# EAGLE library part STM32F1-BLUE_PILL-USBC (library angrypig7-Boards)
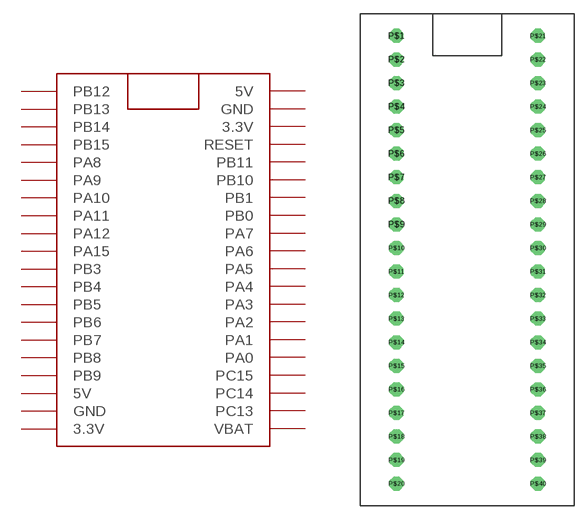
[diagram p8: symbol with the pads of STM32F1-BLUE_PILL; footprint STM32F1-BLUE_PILL]

Designator prefix B

## STM32F1-BLUE_PILL-USBC  [STM32F1-BLUE_PILL]
P$1  PB12
P$2  PB13
P$3  PB14
P$4  PB15
P$5  PA8
P$6  PA9
P$7  PA10
P$8  PA11
P$9  PA12
P$10  PA15
P$11  PB3
P$12  PB4
P$13  PB5
P$14  PB6
P$15  PB7
P$16  PB8
P$17  PB9
P$18  5V
P$19  GND
P$20  3.3V
P$21  5V
P$22  GND  pwr
P$23  3.3V
P$24  RESET
P$25  PB11
P$26  PB10
P$27  PB1
P$28  PB0
P$29  PA7
P$30  PA6
P$31  PA5
P$32  PA4
P$33  PA3
P$34  PA2
P$35  PA1
P$36  PA0
P$37  PC15
P$38  PC14
P$39  PC13
P$40  VBAT

## Footprint STM32F1-BLUE_PILL (pad centres in mm)
drill 1 octagon: P$1 -7.62,24.13; P$2 -7.62,21.59; P$3 -7.62,19.05; P$4 -7.62,16.51; P$5 -7.62,13.97; P$6 -7.62,11.43; P$7 -7.62,8.89; P$8 -7.62,6.35; P$9 -7.62,3.81; P$10 -7.62,1.27; P$11 -7.62,-1.27; P$12 -7.62,-3.81; P$13 -7.62,-6.35; P$14 -7.62,-8.89; P$15 -7.62,-11.43; P$16 -7.62,-13.97; P$17 -7.62,-16.51; P$18 -7.62,-19.05; P$19 -7.62,-21.59; P$20 -7.62,-24.13; P$21 7.62,24.13; P$22 7.62,21.59; P$23 7.62,19.05; P$24 7.62,16.51; P$25 7.62,13.97; P$26 7.62,11.43; P$27 7.62,8.89; P$28 7.62,6.35; P$29 7.62,3.81; P$30 7.62,1.27; P$31 7.62,-1.27; P$32 7.62,-3.81; P$33 7.62,-6.35; P$34 7.62,-8.89; P$35 7.62,-11.43; P$36 7.62,-13.97; P$37 7.62,-16.51; P$38 7.62,-19.05; P$39 7.62,-21.59; P$40 7.62,-24.13